# Altium integrated library IS62WV5128BLL-55HLI.IntLib: 1 symbol
Pins are listed as number, name and electrical type; pins without a type are passive.

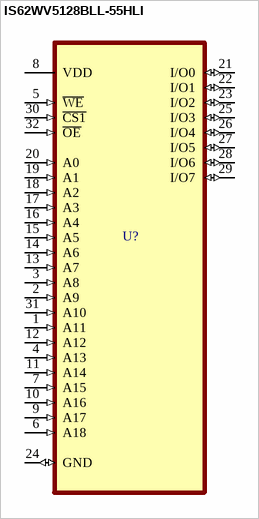
[diagram p0: symbol IS62WV5128BLL-55HLI]

## IS62WV5128BLL-55HLI
designator U?
SRAM - Asynchronous Memory IC 4Mb _512K x 8_ Parallel 55ns 32-sTSOP I; MF: ISSI, Integrated; MP: IS62WV5128BLL-55HLI; Package: LFSOP-32 ISSI; SnapEDA_Link: https://www.snapeda.com/parts/IS62WV5128BLL-55HLI/ISSI,%20Integrated%20Silicon%20Solution%20Inc/view-part/33690/?ref=snap; Digi-Key_Part_Number: IS62WV5128BLL-55HLI-TR-ND; Value: *
footprint SOIC50P1340X125-32N
pins: 1 A11 (in), 2 A9 (in), 3 A8 (in), 4 A13 (in), 5 ~{WE} (in), 6 A18 (in), 7 A15 (in), 8 VDD (power), 9 A17 (in), 10 A16 (in), 11 A14 (in), 12 A12 (in), 13 A7 (in), 14 A6 (in), 15 A5 (in), 16 A4 (in), 17 A3 (in), 18 A2 (in), 19 A1 (in), 20 A0 (in), 21 I/O0 (io), 22 I/O1 (io), 23 I/O2 (io), 24 GND (io), 25 I/O3 (io), 26 I/O4 (io), 27 I/O5 (io), 28 I/O6 (io), 29 I/O7 (io), 30 ~{CS1} (in), 31 A10 (in), 32 ~{OE} (in)